# Altium integrated library Magnetic Lib-IntelNUC.IntLib: 3 symbols
Pins are listed as number, name and electrical type; pins without a type are passive.

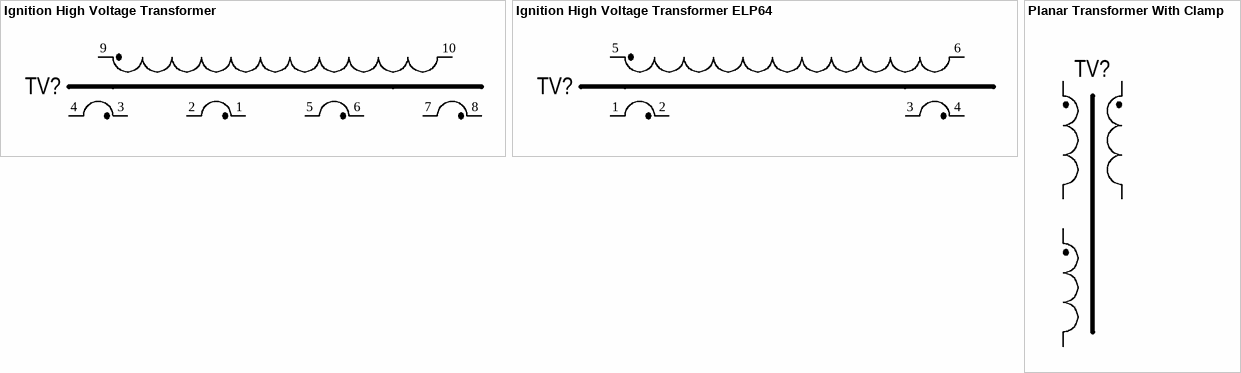
[diagram p0: symbols Ignition High Voltage Transformer to Planar Transformer With Clamp]

## Ignition High Voltage Transformer
designator TV?  (value not drawn)  (net tie)
Manufacture: Self Made; PartNumber: B66291G0100X187 (Quantity 6 pcs); ComponentLink1Description: ELP 43/10/28 & ILP 43/4/28 Cores; ComponentLink1URL: https://www.tdk-electronics.tdk.com/inf/80/db/fer/elp_43_10_28.pdf
footprint HV Transformer (Ignition Arc HV Transformer)
pins: 1 "Pin 1", 2 "Pin 2", 3 "Pin 3", 4 "Pin 4", 5 "Pin 1", 6 "Pin 2", 7 "Pin 1", 8 "Pin 2", 9 "Pin 9", 10 "Pin 10"

## Ignition High Voltage Transformer ELP64
designator TV?, comment Ignition High Voltage Transformer ELP64 Core  (value not drawn)  (net tie)
Manufacture: Self Made; PartNumber: B66295G0000X187 (Quantity 2 pcs); ComponentLink1Description: ELP 64/10/50 & ILP 64/10/50 Cores; ComponentLink1URL: https://www.tdk-electronics.tdk.com/inf/80/db/fer/elp_64_10_50.pdf
footprint HV Transformer ELP64 (Ignition Arc HV Transformer ELP64-core)
pins: 1 "Pin 4", 2 "Pin 3", 3 "Pin 2", 4 "Pin 1", 5 "Pin 5", 6 "Pin 6"

## Planar Transformer With Clamp
designator TV?  (value not drawn)
Tolerance: *
footprint Transformer ELP22 (Planar Transformer ELP22-core)
pins: 1 "CapPin", 2 "CapPin", 3 "CapPin", 4 "CapPin", 5 "CapPin", 6 "CapPin"